# Altium footprint library IBC_prijamnik_VB.PcbLib: 19 footprints (part 1 of 2)
Each footprint in its own frame and in the unit in brackets; x right, y up, seen from the top. Pads: shape width x height; smd on the part's side, far side on the other; paste and mask are expansions set on the pad; w line width, h text height; cw(c..) or ccw(c..) is an arc to the next point about the centre after c.
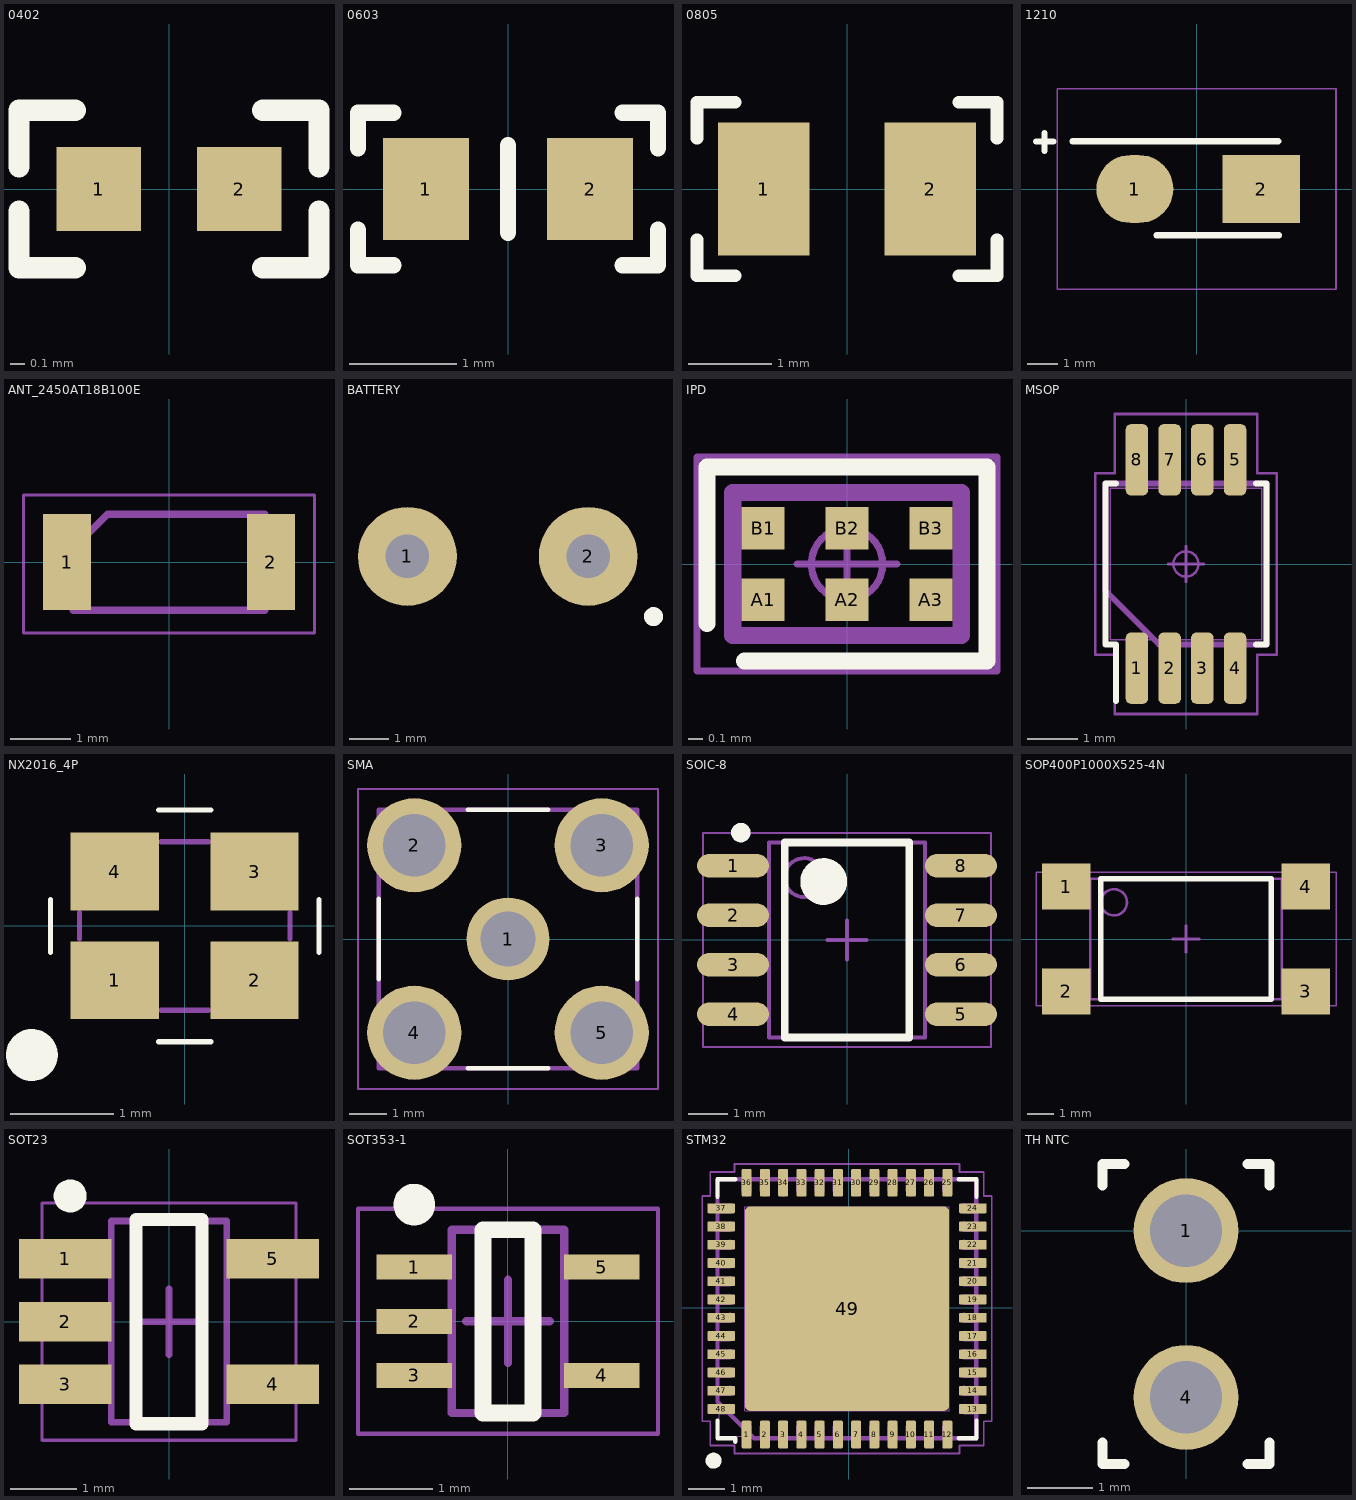
[diagram p0: the footprints below, top view; thin cyan lines are the x and y axes]

## 0402 [mm]
pads (2):
  rect 0.6x0.6 smd: 1(-0.5,0) 2(0.5,0)
Top Overlay:
  lines w0.152: -1.067,-0.159 -1.067,-0.559 -0.667,-0.559 ; -1.067,0.159 -1.067,0.559 -0.667,0.559 ; 0.667,-0.559 1.067,-0.559 1.067,-0.159 ; 0.667,0.559 1.067,0.559 1.067,0.159
3D body "CAP_0402_(NOVI).step": height 0.48, standoff -0.02, extent -0.5,-0.25 0.5,0.25

## 0603 [mm]
pads (2):
  rect 0.8x0.95 smd: 1(-0.765,0) 2(0.765,0)
Top Overlay:
  lines w0.152: -1.397,-0.381 -1.397,-0.711 -1.067,-0.711 ; -1.397,0.381 -1.397,0.711 -1.067,0.711 ; 0,-0.406 0,0.406 ; 1.067,-0.711 1.397,-0.711 1.397,-0.381 ; 1.067,0.711 1.397,0.711 1.397,0.381
3D body "res 0603.step": height 0.45, standoff 0, extent -0.8,-0.41 0.8,0.41

## 0805 [mm]
pads (2):
  rect 1.1x1.6 smd: 1(-1,0) 2(1,0)
Top Overlay:
  lines w0.152: -1.803,-0.61 -1.803,-1.041 -1.346,-1.041 ; -1.803,0.61 -1.803,1.041 -1.346,1.041 ; 1.346,-1.041 1.803,-1.041 1.803,-0.61 ; 1.346,1.041 1.803,1.041 1.803,0.61
3D body "User Library-CR2012-0805.step": height 0.6, standoff 0, extent -1.003,-0.622 0.997,0.628

## 1210 [mm]
pads (2):
  oval 2.5x2.2 smd: 1(-2,0)
  rect 2.5x2.2 smd: 2(2.1,0)
Top Overlay:
  lines w0.2: -5.207,1.542 -4.648,1.542 ; -4.928,1.237 -4.928,1.821 ; -4.025,1.55 2.65,1.55 ; -1.3,-1.5 2.675,-1.5
Mechanical 20:
  lines w0.05: -4.525,-3.25 4.525,-3.25 4.525,3.25 -4.525,3.25 -4.525,-3.25
3D body "User Library-AVX_BCASE.step": height -0.4, standoff -2.43, extent -1.85,-1.465 1.85,1.465

## ANT_2450AT18B100E [mm]
pads (2):
  rect 0.8x1.6 smd: 1(-1.7,0) 2(1.7,0)
Top Overlay:
Bottom Assembly:
  lines w0.12: -1.6,-0.8 -1.6,0.225 -1.025,0.8 1.6,0.8 1.6,-0.8 -1.6,-0.8
Mechanical 7:
  lines w0.05: -2.425,-1.18 2.425,-1.18 2.425,1.12 -2.425,1.12 -2.425,-1.18
Assembly Notes:
  lines w0.05: -2.425,-1.18 2.425,-1.18 2.425,1.12 -2.425,1.12 -2.425,-1.18
3D body "2450AT18B100E--3DModel-STEP-56544.STEP": height 1.41, standoff 0.01, extent -1.6,-0.8 1.6,0.8

## BATTERY [mm]
pads (2):
  round 2.5 hole 1.1: 1(-127.254,-57.404) 2(-122.682,-57.404)
Top Overlay:
  lines w0.254: -120.92,-58.902 ccw(c-121.031,-58.928) -120.919,-58.947

## IPD [mm]
height 0.4
pads (6):
  rect 0.3x0.3 smd paste-0.05: A1(-0.587,-0.25) A2(0,-0.25) A3(0.587,-0.25) B1(-0.587,0.25) B2(0,0.25) B3(0.587,0.25)
Top Overlay:
  lines w0.12: -0.98,-0.417 -0.98,0.68 0.98,0.68 0.98,-0.68 -0.717,-0.68
Bottom Assembly:
  lines w0.12: -0.8,-0.5 0.8,-0.5 0.8,0.5 -0.8,0.5 -0.8,-0.5
Mechanical 5:
  lines w0.025: -0.8,-0.5 0.8,-0.5 0.8,0.5 -0.8,0.5 -0.8,-0.5
Mechanical 7:
  circle w0.05: c0,0 r0.25
  lines w0.05: -0.35,0 0.35,0 ; 0,-0.35 0,0.35 ; -1.05,-0.75 -1.05,0.75 1.05,0.75 1.05,-0.75 -1.05,-0.75
3D body: height 0.41, standoff 0.4, extent -0.658,-0.349 -0.458,-0.149
3D body "ST_MLPF-WB55-01E3.STEP": height 0.4, standoff 0, extent -0.8,-0.5 0.8,0.5
3D body: height 0.03, standoff 0, extent -1.049,-0.749 1.049,0.749

## MSOP [mm]
height 1.1
pads (8):
  rrect50% 0.45x1.42 smd mask+0.06: 1(-0.975,-2.07) 2(-0.325,-2.07) 3(0.325,-2.07) 4(0.975,-2.07) 5(0.975,2.07) 6(0.325,2.07) 7(-0.325,2.07) 8(-0.975,2.07)
Top Overlay:
  lines w0.12: -1.395,-2.72 -1.395,-1.6 -1.6,-1.6 -1.6,1.6 -1.395,1.6 ; 1.395,-1.6 1.6,-1.6 1.6,1.6 1.395,1.6
Bottom Assembly:
  lines w0.12: -1.6,-0.533 -1.6,1.6 1.6,1.6 1.6,-1.6 -0.533,-1.6 -1.6,-0.533
Mechanical 5:
  lines w0.025: -1.5,-1.5 1.5,-1.5 1.5,1.5 -1.5,1.5 -1.5,-1.5 ; -1.138,-2.45 -1.138,-1.85 -0.813,-1.85 -0.813,-2.45 -1.138,-2.45 ; -1.138,1.85 -1.138,2.45 -0.813,2.45 -0.813,1.85 -1.138,1.85 ; -0.487,-2.45 -0.487,-1.85 -0.162,-1.85 -0.162,-2.45 -0.487,-2.45 ; -0.487,1.85 -0.487,2.45 -0.162,2.45 -0.162,1.85 -0.487,1.85 ; 0.162,-2.45 0.162,-1.85 0.487,-1.85 0.487,-2.45 0.162,-2.45 ; 0.162,1.85 0.162,2.45 0.487,2.45 0.487,1.85 0.162,1.85 ; 0.813,-2.45 0.813,-1.85 1.138,-1.85 1.138,-2.45 0.813,-2.45 ; 0.813,1.85 0.813,2.45 1.138,2.45 1.138,1.85 0.813,1.85
Mechanical 7:
  circle w0.05: c0,0 r0.25
  lines w0.05: -0.35,0 0.35,0 ; 0,-0.35 0,0.35 ; -1.8,-1.8 -1.415,-1.8 -1.415,-2.98 1.415,-2.98 1.415,-1.8 1.8,-1.8 1.8,1.8 1.415,1.8 1.415,2.98 -1.415,2.98 -1.415,1.8 -1.8,1.8 -1.8,-1.8
3D body "SOP8P65_300X490X110L60X32.STEP": height 1.1, standoff 0, extent -1.5,-2.45 1.5,2.45
3D body: height 0.03, standoff 0, extent -1.799,-2.979 1.799,2.979

## NX2016_4P [mm]
pads (4):
  rect 0.85x0.75 smd mask+0.05: 1(-0.675,-0.525) 2(0.675,-0.525) 3(0.675,0.525) 4(-0.675,0.525)
Top Overlay:
  circle w0.25: c-1.473,-1.245 r0.125
  lines w0.05: -1.295,-0.254 -1.295,0.254 ; -0.254,-1.118 0.254,-1.118 ; -0.254,1.118 0.254,1.118 ; 1.295,-0.254 1.295,0.254
Assembly Notes:
  lines w0.05: -1.016,-0.127 -1.016,0.127 ; -0.229,-0.813 0.229,-0.813 ; -0.229,0.813 0.229,0.813 ; 1.016,-0.127 1.016,0.127
3D body "NX2016SA(NDK).step": height 0.7, standoff 0, extent -1,-0.8 1,0.8

## SMA [mm]
height 9.56
pads (5):
  round 2.25 hole 1.5 paste-2539.97: 1(0,0)
  round 2.55 hole 1.7 paste-2539.97: 2(-2.54,2.54) 3(2.54,2.54) 4(-2.54,-2.54) 5(2.54,-2.54)
Top Overlay:
  lines w0.12: -3.5,-1.085 -3.5,1.085 ; -1.085,-3.5 1.085,-3.5 ; -1.085,3.5 1.085,3.5 ; 3.5,-1.085 3.5,1.085
Bottom Assembly:
  lines w0.12: -3.5,-3.5 -3.5,3.5 3.5,3.5 3.5,-3.5 -3.5,-3.5
Mechanical 5:
  lines w0.025: -3.5,-3.5 -3.5,3.5 3.5,3.5 3.5,-3.5 -3.5,-3.5
Mechanical 7:
  circle w0.05: c0,0 r0.25
  lines w0.05: -0.35,0 0.35,0 ; 0,-0.35 0,0.35 ; -4.065,-4.065 4.065,-4.065 4.065,4.065 -4.065,4.065 -4.065,-4.065
3D body "60312002114503.stp": height 9.56, standoff -3.94, extent -3.5,-3.5 3.5,3.5
3D body: height 0.03, standoff 0, extent -4.064,-4.064 4.064,4.064

## SOIC-8 [mm]
height 1.75
pads (8):
  oval 1.85x0.6 smd: 1(-2.925,1.905) 2(-2.925,0.635) 3(-2.925,-0.635) 4(-2.925,-1.905) 5(2.925,-1.905) 6(2.925,-0.635) 7(2.925,0.635) 8(2.925,1.905)
Top Overlay:
  circle w0.25: c-2.725,2.755 r0.125
  circle w0.6: c-0.6,1.5 r0.3
  lines w0.2: -1.6,-2.5 -1.6,2.5 1.6,2.5 1.6,-2.5 -1.6,-2.5
Top Assembly:
  circle w0.1: c-1.1,1.6 r0.5
  lines w0.1: -2,-2.5 -2,2.5 2,2.5 2,-2.5 -2,-2.5
Mechanical 15:
  lines w0.05: -3.7,-2.75 -3.7,2.75 3.7,2.75 3.7,-2.75 -3.7,-2.75
  lines w0.1: -0.5,0 0.5,0 ; 0,-0.5 0,0.5
3D body: height 1.75, standoff 0.1, extent -2,-2.5 2,2.5
3D body "BUF602ID.stp": height 1.63, standoff 0, extent -3.011,-2.451 3.011,2.451

## SOP400P1000X525-4N [mm]
height 5.25
pads (4):
  rect 1.85x1.75 smd: 1(-4.575,2) 2(-4.575,-2) 3(4.575,-2) 4(4.575,2)
Top Overlay:
  lines w0.2: -3.25,-2.3 -3.25,2.3 3.25,2.3 3.25,-2.3 -3.25,-2.3
Top Assembly:
  circle w0.1: c-2.75,1.4 r0.5
  lines w0.1: -3.65,-2.3 -3.65,2.3 3.65,2.3 3.65,-2.3 -3.65,-2.3
Mechanical 15:
  lines w0.05: -5.725,-2.55 -5.725,2.55 5.725,2.55 5.725,-2.55 -5.725,-2.55
  lines w0.1: -0.5,0 0.5,0 ; 0,-0.5 0,0.5
3D body "TL3301AF160QG.stp": height 5.12, standoff 0.02, extent -5,-3 5,3

## SOT23 [mm]
height 1.45
pads (5):
  rect 1.4x0.6 smd: 1(-1.575,0.95) 2(-1.575,0) 3(-1.575,-0.95) 4(1.575,-0.95) 5(1.575,0.95)
Top Overlay:
  circle w0.25: c-1.499,1.905 r0.125
  lines w0.2: -0.5,-1.55 0.5,-1.55 0.5,1.55 -0.5,1.55 -0.5,-1.55
Top Assembly:
  lines w0.1: -0.875,-1.525 -0.875,1.525 0.875,1.525 0.875,-1.525 -0.875,-1.525
Mechanical 15:
  lines w0.05: -1.925,-1.8 -1.925,1.8 1.925,1.8 1.925,-1.8 -1.925,-1.8
  lines w0.1: -0.5,0 0.5,0 ; 0,-0.5 0,0.5
3D body "TPS73633DBVR.stp": height 1.2, standoff 0, extent -1.4,-1.45 1.4,1.45

## SOT353-1 [mm]
pads (5):
  rect 0.9x0.3 smd: 1(-1.125,0.65) 2(-1.125,0) 3(-1.125,-0.65) 4(1.125,-0.65) 5(1.125,0.65)
Top Overlay:
  circle w0.25: c-1.125,1.4 r0.125
  lines w0.2: -0.3,-1.1 0.3,-1.1 0.3,1.1 -0.3,1.1 -0.3,-1.1
Top Assembly:
  lines w0.1: -0.675,-1.1 -0.675,1.1 0.675,1.1 0.675,-1.1 -0.675,-1.1
Mechanical 15:
  lines w0.05: -1.8,-1.35 -1.8,1.35 1.8,1.35 1.8,-1.35 -1.8,-1.35
  lines w0.1: -0.5,0 0.5,0 ; 0,-0.5 0,0.5
3D body "74AHC1G17GWH.stp": height 0.96, standoff 0.01, extent -1.05,-1.05 1.05,1.1

## STM32 [mm]
height 0.6
pads (49):
  rrect25% 0.27x0.76 smd mask+0.07: 1(-2.801,-3.475) 2(-2.301,-3.475) 3(-1.801,-3.475) 4(-1.301,-3.475) 5(-0.801,-3.475) 6(-0.301,-3.475) 7(0.199,-3.475) 8(0.699,-3.475) 9(1.199,-3.475) 10(1.699,-3.475) 11(2.199,-3.475) 12(2.699,-3.475) 25(2.699,3.425) 26(2.199,3.425) 27(1.699,3.425) 28(1.199,3.425) 29(0.699,3.425) 30(0.199,3.425) 31(-0.301,3.425) 32(-0.801,3.425) 33(-1.301,3.425) 34(-1.801,3.425) 35(-2.301,3.425) 36(-2.801,3.425)
  rrect25% 0.76x0.27 smd mask+0.07: 13(3.399,-2.775) 14(3.399,-2.275) 15(3.399,-1.775) 16(3.399,-1.275) 17(3.399,-0.775) 18(3.399,-0.275) 19(3.399,0.225) 20(3.399,0.725) 21(3.399,1.225) 22(3.399,1.725) 23(3.399,2.225) 24(3.399,2.725) 37(-3.501,2.725) 38(-3.501,2.225) 39(-3.501,1.725) 40(-3.501,1.225) 41(-3.501,0.725) 42(-3.501,0.225) 43(-3.501,-0.275) 44(-3.501,-0.775) 45(-3.501,-1.275) 46(-3.501,-1.775) 47(-3.501,-2.275) 48(-3.501,-2.775)
  rrect5% 5.6x5.6 smd paste+0 mask+0.07: 49(-0.051,-0.025)
Top Overlay:
  circle w0.254: c-3.708,-4.191 r0.092
  lines w0.12: -3.601,-3.09 -3.601,-3.575 -3.116,-3.575 -3.116,-3.67 ; -3.601,3.04 -3.601,3.525 -3.116,3.525 ; 3.014,-3.575 3.499,-3.575 3.499,-3.09 ; 3.014,3.525 3.499,3.525 3.499,3.04
Top Paste:
  region: -1.258,1.182 -2.578,1.182 -2.578,2.502 -1.258,2.502
  region: -1.258,-0.685 -2.578,-0.685 -2.578,0.635 -1.258,0.635
  region: -1.258,-2.552 -2.578,-2.552 -2.578,-1.232 -1.258,-1.232
  region: 0.609,1.182 -0.711,1.182 -0.711,2.502 0.609,2.502
  region: 0.609,-0.685 -0.711,-0.685 -0.711,0.635 0.609,0.635
  region: 0.609,-2.552 -0.711,-2.552 -0.711,-1.232 0.609,-1.232
  region: 2.476,1.182 1.156,1.182 1.156,2.502 2.476,2.502
  region: 2.476,-0.685 1.156,-0.685 1.156,0.635 2.476,0.635
  region: 2.476,-2.552 1.156,-2.552 1.156,-1.232 2.476,-1.232
Bottom Assembly:
  lines w0.12: -3.601,-2.575 -3.601,3.525 3.499,3.525 3.499,-3.575 -2.601,-3.575 -3.601,-2.575
Mechanical 5:
  drawing of 200 lines, arcs and shapes, not listed
Mechanical 7:
  circle w0.05: c-0.051,-0.025 r0.25
  lines w0.05: -0.401,-0.025 0.299,-0.025 ; -0.051,-0.375 -0.051,0.325 ; -4.016,-3.11 -3.801,-3.11 -3.801,-3.775 -3.136,-3.775 -3.136,-3.99 3.034,-3.99 3.034,-3.775 3.699,-3.775 3.699,-3.11 3.914,-3.11 3.914,3.06 3.699,3.06 3.699,3.725 3.034,3.725 3.034,3.94 -3.136,3.94 -3.136,3.725 -3.801,3.725 -3.801,3.06 -4.016,3.06 -4.016,-3.11
3D body "QFN49P50_700X700X60L40X25T560.STEP": height 0.6, standoff 0, extent -3.601,-3.575 3.499,3.525
3D body: height 0.03, standoff 0, extent -4.015,-3.99 3.914,3.939

## TH NTC [mm] "TH-2, 3,7x2,54 mm"
pads (2):
  round 1.6 hole 1.1: 1(0,0) 4(0,-2.54)
Top Overlay:
  lines w0.152: -1.27,-3.226 -1.27,-3.556 -0.94,-3.556 ; -1.27,0.686 -1.27,1.016 -0.94,1.016 ; 0.94,-3.556 1.27,-3.556 1.27,-3.226 ; 0.94,1.016 1.27,1.016 1.27,0.686